# EAGLE library part BEAGLE_EXPANSION (library dab5267)
BeagleBoard C4 Expansion Provides pinouts for J3, J4, and J5. J3 is the main expansion header. J4 is the first LCD connector. J5 is the second LCD connector.
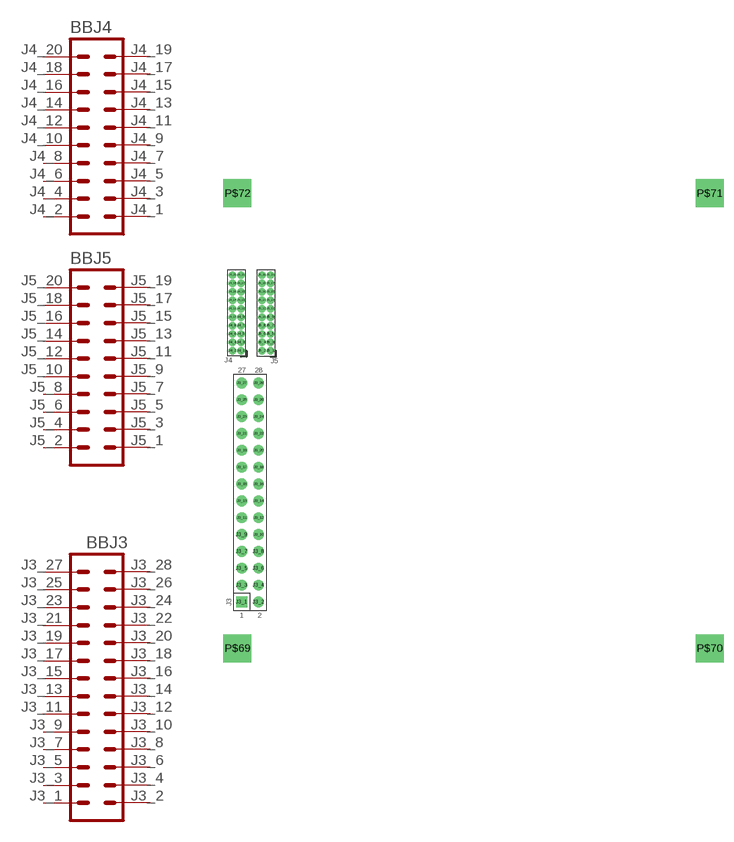
[diagram p2: symbol with the pads of BEAGLE_EXPANSION; footprint BEAGLE_EXPANSION]

Designator prefix BB; gates J3=.1IN_14X2 J4=.1IN_10X2 J5=.1IN_10X2

## BEAGLE_EXPANSION  [BEAGLE_EXPANSION]
J3_1  J3:1  pas
J3_2  J3:2  pas
J3_3  J3:3  pas
J3_4  J3:4  pas
J3_5  J3:5  pas
J3_6  J3:6  pas
J3_7  J3:7  pas
J3_8  J3:8  pas
J3_9  J3:9  pas
J3_10  J3:10  pas
J3_11  J3:11  pas
J3_12  J3:12  pas
J3_13  J3:13  pas
J3_14  J3:14  pas
J3_15  J3:15  pas
J3_16  J3:16  pas
J3_17  J3:17  pas
J3_18  J3:18  pas
J3_19  J3:19  pas
J3_20  J3:20  pas
J3_21  J3:21  pas
J3_22  J3:22  pas
J3_23  J3:23  pas
J3_24  J3:24  pas
J3_25  J3:25  pas
J3_26  J3:26  pas
J3_27  J3:27  pas
J3_28  J3:28  pas
J4_1  J4:1  pas
J4_2  J4:2  pas
J4_3  J4:3  pas
J4_4  J4:4  pas
J4_5  J4:5  pas
J4_6  J4:6  pas
J4_7  J4:7  pas
J4_8  J4:8  pas
J4_9  J4:9  pas
J4_10  J4:10  pas
J4_11  J4:11  pas
J4_12  J4:12  pas
J4_13  J4:13  pas
J4_14  J4:14  pas
J4_15  J4:15  pas
J4_16  J4:16  pas
J4_17  J4:17  pas
J4_18  J4:18  pas
J4_19  J4:19  pas
J4_20  J4:20  pas
J5_1  J5:1  pas
J5_2  J5:2  pas
J5_3  J5:3  pas
J5_4  J5:4  pas
J5_5  J5:5  pas
J5_6  J5:6  pas
J5_7  J5:7  pas
J5_8  J5:8  pas
J5_9  J5:9  pas
J5_10  J5:10  pas
J5_11  J5:11  pas
J5_12  J5:12  pas
J5_13  J5:13  pas
J5_14  J5:14  pas
J5_15  J5:15  pas
J5_16  J5:16  pas
J5_17  J5:17  pas
J5_18  J5:18  pas
J5_19  J5:19  pas
J5_20  J5:20  pas

## Footprint BEAGLE_EXPANSION (pad centres in mm)
drill 1 pad 1.676 square: J3_1 0,0
drill 1 pad 1.625: J3_2 2.54,0; J3_3 0,2.54; J3_4 2.54,2.54; J3_5 0,5.08; J3_6 2.54,5.08; J3_7 0,7.62; J3_8 2.54,7.62; J3_9 0,10.16; J3_10 2.54,10.16; J3_11 0,12.7; J3_12 2.54,12.7; J3_13 0,15.24; J3_14 2.54,15.24; J3_15 0,17.78; J3_16 2.54,17.78; J3_17 0,20.32; J3_18 2.54,20.32; J3_19 0,22.86; J3_20 2.54,22.86; J3_21 0,25.4; J3_22 2.54,25.4; J3_23 0,27.94; J3_24 2.54,27.94; J3_25 0,30.48; J3_26 2.54,30.48; J3_27 0,33.02; J3_28 2.54,33.02
drill 0.6 pad 1.117: J4_1 -0.127,37.846; J4_2 -1.397,37.846; J4_3 -0.127,39.116; J4_4 -1.397,39.116; J4_5 -0.127,40.386; J4_6 -1.397,40.386; J4_7 -0.127,41.656; J4_8 -1.397,41.656; J4_9 -0.127,42.926; J4_10 -1.397,42.926; J4_11 -0.127,44.196; J4_12 -1.397,44.196; J4_13 -0.127,45.466; J4_14 -1.397,45.466; J4_15 -0.127,46.736; J4_16 -1.397,46.736; J4_17 -0.127,48.006; J4_18 -1.397,48.006; J4_19 -0.127,49.276; J4_20 -1.397,49.276; J5_1 4.318,37.846; J5_2 3.048,37.846; J5_3 4.318,39.116; J5_4 3.048,39.116; J5_5 4.318,40.386; J5_6 3.048,40.386; J5_7 4.318,41.656; J5_8 3.048,41.656; J5_9 4.318,42.926; J5_10 3.048,42.926; J5_11 4.318,44.196; J5_12 3.048,44.196; J5_13 4.318,45.466; J5_14 3.048,45.466; J5_15 4.318,46.736; J5_16 3.048,46.736; J5_17 4.318,48.006; J5_18 3.048,48.006; J5_19 4.318,49.276; J5_20 3.048,49.276
drill 3.2 square: P$69 -0.635,-6.985; P$70 70.485,-6.985; P$71 70.485,61.595; P$72 -0.635,61.595